# EAGLE library part ESP32 (library awesome)
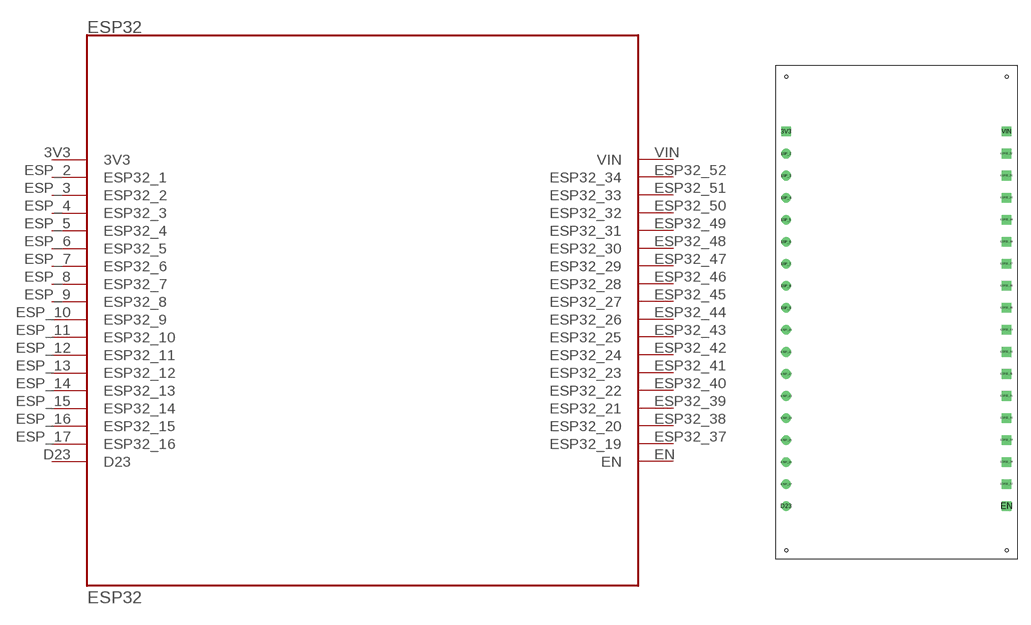
[diagram p0: symbol with the pads of ESP32; footprint ESP32]

Designator prefix ESP32

## ESP32  [ESP32]
3V3  3V3
D23  D23
EN  EN
ESP32_37  ESP32_19
ESP32_38  ESP32_20
ESP32_39  ESP32_21
ESP32_40  ESP32_22
ESP32_41  ESP32_23
ESP32_42  ESP32_24
ESP32_43  ESP32_25
ESP32_44  ESP32_26
ESP32_45  ESP32_27
ESP32_46  ESP32_28
ESP32_47  ESP32_29
ESP32_48  ESP32_30
ESP32_49  ESP32_31
ESP32_50  ESP32_32
ESP32_51  ESP32_33
ESP32_52  ESP32_34
ESP_2  ESP32_1
ESP_3  ESP32_2
ESP_4  ESP32_3
ESP_5  ESP32_4
ESP_6  ESP32_5
ESP_7  ESP32_6
ESP_8  ESP32_7
ESP_9  ESP32_8
ESP_10  ESP32_9
ESP_11  ESP32_10
ESP_12  ESP32_11
ESP_13  ESP32_12
ESP_14  ESP32_13
ESP_15  ESP32_14
ESP_16  ESP32_15
ESP_17  ESP32_16
VIN  VIN

## Footprint ESP32 (pad centres in mm)
drill 0.6 square: 3V3 1.27,-7.62; EN 26.67,-50.8; ESP32_37 26.67,-48.26; ESP32_38 26.67,-45.72; ESP32_39 26.67,-43.18; ESP32_40 26.67,-40.64; ESP32_41 26.67,-38.1; ESP32_42 26.67,-35.56; ESP32_43 26.67,-33.02; ESP32_44 26.67,-30.48; ESP32_45 26.67,-27.94; ESP32_46 26.67,-25.4; ESP32_47 26.67,-22.86; ESP32_48 26.67,-20.32; ESP32_49 26.67,-17.78; ESP32_50 26.67,-15.24; ESP32_51 26.67,-12.7; ESP32_52 26.67,-10.16; VIN 26.67,-7.62
drill 0.6: D23 1.27,-50.8; ESP_2 1.27,-10.16; ESP_3 1.27,-12.7; ESP_4 1.27,-15.24; ESP_5 1.27,-17.78; ESP_6 1.27,-20.32; ESP_7 1.27,-22.86; ESP_8 1.27,-25.4; ESP_9 1.27,-27.94; ESP_10 1.27,-30.48; ESP_11 1.27,-33.02; ESP_12 1.27,-35.56; ESP_13 1.27,-38.1; ESP_14 1.27,-40.64; ESP_15 1.27,-43.18; ESP_16 1.27,-45.72; ESP_17 1.27,-48.26
hole 0.35 at 1.27,-1.27
hole 0.35 at 26.67,-1.27
hole 0.35 at 1.27,-55.88
hole 0.35 at 26.67,-55.88